# Altium schematic symbol library SPX3819M5-L-3-3TR.SchLib: 1 symbol
Pins are listed as number, name and electrical type; pins without a type are passive.

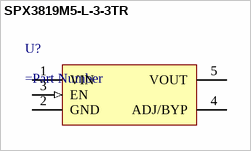
[diagram p0: symbol SPX3819M5-L-3-3TR]

## SPX3819M5-L-3-3TR
designator U?
=Description
pins: 1 VIN (power), 2 GND (power), 3 EN (in), 4 ADJ/BYP, 5 VOUT (power)